# EAGLE library part EC2 (library ec2)
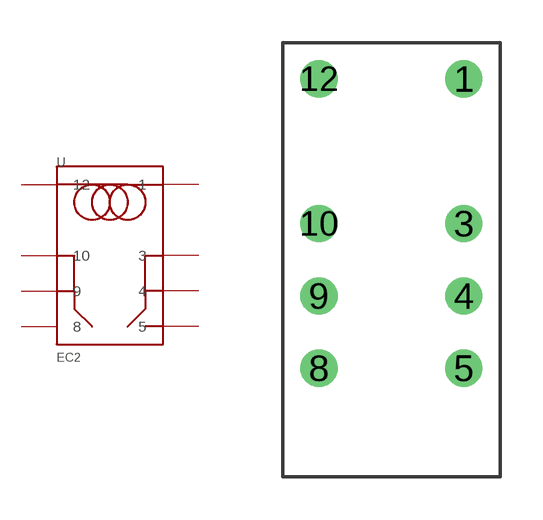
[diagram p0: symbol with the pads of EC2; footprint EC2]

Designator prefix -

## EC2  [EC2]
1  1
3  3
4  4
5  5
8  8
9  9
10  10
12  12

## Footprint EC2 (pad centres in mm)
drill 0.8: 1 2.54,6.35; 3 2.54,1.27; 4 2.54,-1.27; 5 2.54,-3.81; 8 -2.54,-3.81; 9 -2.54,-1.27; 10 -2.54,1.27; 12 -2.54,6.35